# Altium schematic symbol library G5LE-1A4_DC3.SchLib: 1 symbol
Pins are listed as number, name and electrical type; pins without a type are passive.

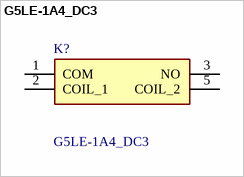
[diagram p0: symbol G5LE-1A4_DC3]

## G5LE-1A4_DC3
designator K?
General Purpose Relays Power PCB Relay; Manufacturer_Name: Omron Electronics; Manufacturer_Part_Number: G5LE-1A4 DC3; Geometry.Height: 19mm; Mouser Part Number: 653-G5LE-1A4DC3; Mouser Price/Stock: https://www.mouser.co.uk/ProductDetail/Omron-Electronics/G5LE-1A4-DC3?qs=wkx8pu8tL7IvWkjKUXxpCQ%3D%3D; Arrow Part Number: *; Arrow Price/Stock: *; Datasheet Link: http://www.omron.com/ecb/products/pdf/en-g5le.pdf
footprint G5LE1A4DC3
pins: 1 COM, 2 COIL_1, 3 NO, 5 COIL_2